# Altium schematic symbol library CH340N.SchLib: 1 symbol
Pins are listed as number, name and electrical type; pins without a type are passive.

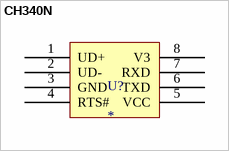
[diagram p0: symbol CH340N]

## CH340N
designator U?
footprint SSOP8_L (SSOP-8_L3.0-W3.0-P0.65       淘宝ID:黄晶宝石)
pins: 1 UD+, 2 UD-, 3 GND, 4 RTS#, 5 VCC, 6 TXD, 7 RXD, 8 V3